# Altium schematic symbol library atmel328p_eeg.SchLib: 2 symbols
Pins are listed as number, name and electrical type; pins without a type are passive.

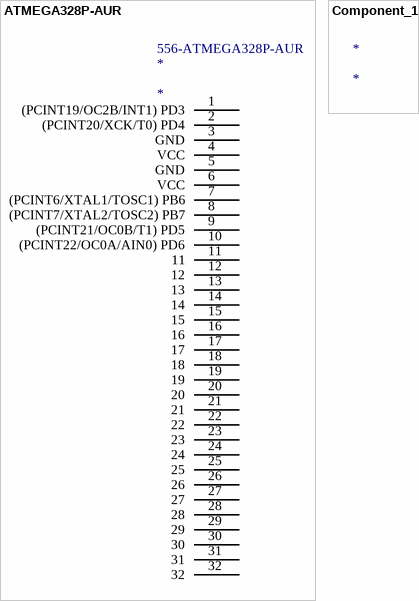
[diagram p0: symbols ATMEGA328P-AUR to Component_1]

## ATMEGA328P-AUR
designator *  Supplier Part Number 1: 556-ATMEGA328P-AUR
8-bit Microcontrollers - MCU AVR 32K FLSH 2K SRAM 1KB EE-20MHz IND; Manufacturer: Atmel; Manufacturer Part Number: ATMEGA328P-AUR; Program Memory Type: Flash; A/D Bit Size: 10 bit; A/D Channels Available: 8; Data RAM Size: 2 kB; Data ROM Type: EEPROM; Interface Type: I2C, SPI, USART; Number of I/Os: 23 I/O; Program Memory Size: 32 kB; Data Bus Width: 8 bit; Maximum Clock Frequency: 20 MHz; Number of Timers: 3 Timer; Operating Supply Voltage: 1.8 V to 5.5 V; Processor Series: megaAVR; Supply Voltage - Max: 5.5 V; Supply Voltage - Min: 1.8 V; Supplier 1: Mouser; RoHS: RoHS Compliant; Category: 8-bit Microcontrollers - MCU; Stock 1: 1252; Pricing 1: 1=5.27, 10=4.65, 25=4.35, 50=3.70, 100=3.49, 250=3.37, 500=3.28, 1000=2.76, 2000=2.75 (AUD); Package / Case: TQFP-32; Packaging: Reel; Product: MCU; Series: ATMEGA328; Brand: Atmel; Data RAM Type: SRAM; Data ROM Size: 1 kB; Mounting Style: SMD/SMT; Core: AVR; Maximum Operating Temperature: + 85 C; Minimum Operating Temperature: - 40 C; Standard Pack Qty: 2000; Tradename: ATMEGA; RoHS - Mouser: Y; Minimum Order Quantity: 1; Reeling: True; ComponentLink1URL: http://www.mouser.com/ds/2/36/atmel-8271-8-bit-avr-microcontroller-atmega48a-48p-365589.pdf; ComponentLink1Description: http://www.mouser.com/ds/2/36/atmel-8271-8-bit-avr-microcontroller-atmega48a-48p-365589.pdf
pins: 1 (PCINT19/OC2B/INT1) PD3, 2 (PCINT20/XCK/T0) PD4, 3 GND, 4 VCC, 5 GND, 6 VCC, 7 (PCINT6/XTAL1/TOSC1) PB6, 8 (PCINT7/XTAL2/TOSC2) PB7, 9 (PCINT21/OC0B/T1) PD5, 10 (PCINT22/OC0A/AIN0) PD6, 11, 12, 13, 14, 15, 16, 17, 18, 19, 20, 21, 22, 23, 24, 25, 26, 27, 28, 29, 30, 31, 32

## Component_1
designator *